# EAGLE library part 6871XX182122_687150182122 (library WR-FPC)
WR-FPC 0.50 mm SMT ZIF Horizontal Dual Contact KIND PROPERTIES Pitch 0.5 mm MATERIAL PROPERTIES Insulator Material LCP Contact Material Phosphor Bronze Contact Plating 80 (µ") Tin over 50 (µ") Nickel Contact Type Stamped Solder Tabs Brass <https://www.we-online.com/catalog/media/o73336v209%20Family_WR-FPC_687186182122.jpg> Details see: https://www.we-online.com/catalog/en/FPC_0_5_SMT_ZIF_HORIZONTAL_DUAL_CONTACT_BACK_LOCKING_6871XX182122/ Updated by Ella Wu 2020-08-26 2020(C) Wurth Elektronik
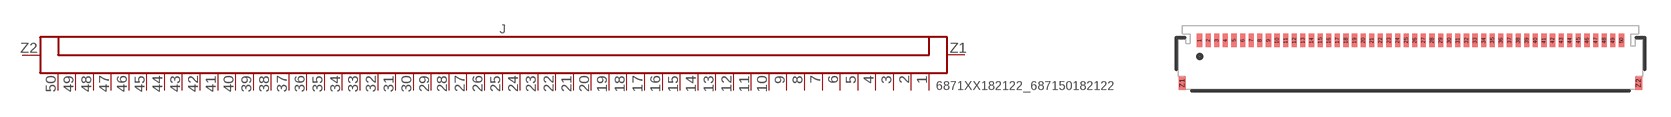
[diagram p170: symbol with the pads of 687150182122; footprint 687150182122]

Designator prefix J

## 6871XX182122_687150182122 (CONTACT-RESISTANCE: 30mOhm; DATASHEET-URL: https://www.we-online.com/redexpert/spec/687150182122?ae; IR: 0.5A; L: 27mm; PACKAGING: Tape and Reel; PART-NUMBER: 687150182122; PINS: 50; PITCH: 0.5mm; TYPE: Horizontal; VALUE: 687150182122; WORKING-VOLTAGE: 50V(AC))  [687150182122]
1  1  pas
2  2  pas
3  3  pas
4  4  pas
5  5  pas
6  6  pas
7  7  pas
8  8  pas
9  9  pas
10  10  pas
11  11  pas
12  12  pas
13  13  pas
14  14  pas
15  15  pas
16  16  pas
17  17  pas
18  18  pas
19  19  pas
20  20  pas
21  21  pas
22  22  pas
23  23  pas
24  24  pas
25  25  pas
26  26  pas
27  27  pas
28  28  pas
29  29  pas
30  30  pas
31  31  pas
32  32  pas
33  33  pas
34  34  pas
35  35  pas
36  36  pas
37  37  pas
38  38  pas
39  39  pas
40  40  pas
41  41  pas
42  42  pas
43  43  pas
44  44  pas
45  45  pas
46  46  pas
47  47  pas
48  48  pas
49  49  pas
50  50  pas
Z1  Z1  pas
Z2  Z2  pas

## Footprint 687150182122 (pad centres in mm)
WR-FPC 0.50 mm SMT ZIF Horizontal Dual Contact ,50Pins
smd 0.3 x 0.8: 1 -12.25,1.4; 2 -11.75,1.4; 3 -11.25,1.4; 4 -10.75,1.4; 5 -10.25,1.4; 6 -9.75,1.4; 7 -9.25,1.4; 8 -8.75,1.4; 9 -8.25,1.4; 10 -7.75,1.4; 11 -7.25,1.4; 12 -6.75,1.4; 13 -6.25,1.4; 14 -5.75,1.4; 15 -5.25,1.4; 16 -4.75,1.4; 17 -4.25,1.4; 18 -3.75,1.4; 19 -3.25,1.4; 20 -2.75,1.4; 21 -2.25,1.4; 22 -1.75,1.4; 23 -1.25,1.4; 24 -0.75,1.4; 25 -0.25,1.4; 26 0.25,1.4; 27 0.75,1.4; 28 1.25,1.4; 29 1.75,1.4; 30 2.25,1.4; 31 2.75,1.4; 32 3.25,1.4; 33 3.75,1.4; 34 4.25,1.4; 35 4.75,1.4; 36 5.25,1.4; 37 5.75,1.4; 38 6.25,1.4; 39 6.75,1.4; 40 7.25,1.4; 41 7.75,1.4; 42 8.25,1.4; 43 8.75,1.4; 44 9.25,1.4; 45 9.75,1.4; 46 10.25,1.4; 47 10.75,1.4; 48 11.25,1.4; 49 11.75,1.4; 50 12.25,1.4
smd 0.4 x 0.8: Z1 -13.25,-1.1; Z2 13.25,-1.1